# Altium schematic symbol library AutoBike.SCHLIB: 15 symbols
Pins are listed as number, name and electrical type; pins without a type are passive.

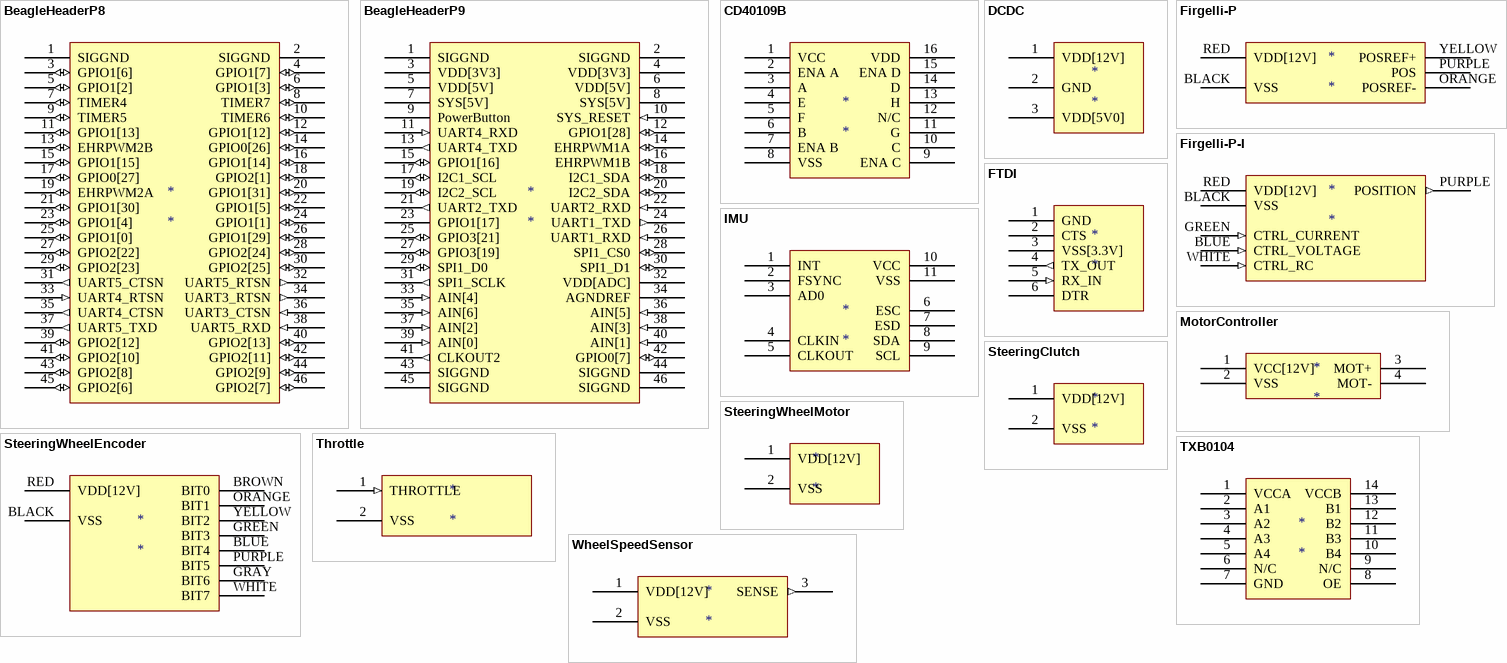
[diagram p0: symbols BeagleHeaderP8 to WheelSpeedSensor]

## BeagleHeaderP8
designator *
pins: 1 SIGGND (power), 2 SIGGND (power), 3 GPIO1[6] (io), 4 GPIO1[7] (io), 5 GPIO1[2] (io), 6 GPIO1[3] (io), 7 TIMER4 (io), 8 TIMER7 (io), 9 TIMER5 (io), 10 TIMER6 (io), 11 GPIO1[13] (io), 12 GPIO1[12] (io), 13 EHRPWM2B (io), 14 GPIO0[26] (io), 15 GPIO1[15] (io), 16 GPIO1[14] (io), 17 GPIO0[27] (io), 18 GPIO2[1] (io), 19 EHRPWM2A (io), 20 GPIO1[31] (io), 21 GPIO1[30] (io), 22 GPIO1[5] (io), 23 GPIO1[4] (io), 24 GPIO1[1] (io), 25 GPIO1[0] (io), 26 GPIO1[29] (io), 27 GPIO2[22] (io), 28 GPIO2[24] (io), 29 GPIO2[23] (io), 30 GPIO2[25] (io), 31 UART5_CTSN (out), 32 UART5_RTSN (out), 33 UART4_RTSN (in), 34 UART3_RTSN (out), 35 UART4_CTSN (out), 36 UART3_CTSN (in), 37 UART5_TXD (out), 38 UART5_RXD (in), 39 GPIO2[12] (io), 40 GPIO2[13] (io), 41 GPIO2[10] (io), 42 GPIO2[11] (io), 43 GPIO2[8] (io), 44 GPIO2[9] (io), 45 GPIO2[6] (io), 46 GPIO2[7] (io)

## BeagleHeaderP9
designator *
pins: 1 SIGGND (power), 2 SIGGND (power), 3 VDD[3V3] (power), 4 VDD[3V3] (power), 5 VDD[5V] (power), 6 VDD[5V] (power), 7 SYS[5V] (power), 8 SYS[5V], 9 PowerButton, 10 SYS_RESET (in), 11 UART4_RXD (in), 12 GPIO1[28] (io), 13 UART4_TXD (out), 14 EHRPWM1A (io), 15 GPIO1[16] (io), 16 EHRPWM1B (io), 17 I2C1_SCL (io), 18 I2C1_SDA (io), 19 I2C2_SCL (io), 20 I2C2_SDA (io), 21 UART2_TXD (out), 22 UART2_RXD (in), 23 GPIO1[17], 24 UART1_TXD (out), 25 GPIO3[21] (io), 26 UART1_RXD (in), 27 GPIO3[19] (io), 28 SPI1_CS0 (io), 29 SPI1_D0 (io), 30 SPI1_D1 (io), 31 SPI1_SCLK (out), 32 VDD[ADC] (power), 33 AIN[4] (in), 34 AGNDREF (power), 35 AIN[6] (in), 36 AIN[5] (in), 37 AIN[2] (in), 38 AIN[3] (in), 39 AIN[0] (in), 40 AIN[1] (in), 41 CLKOUT2 (out), 42 GPIO0[7] (io), 43 SIGGND (power), 44 SIGGND (power), 45 SIGGND (power), 46 SIGGND (power)

## CD40109B
designator *
pins: 1 VCC (power), 2 ENA A, 3 A, 4 E, 5 F, 6 B, 7 ENA B, 8 VSS, 9 ENA C, 10 C, 11 G, 12 N/C, 13 H, 14 D, 15 ENA D, 16 VDD (power)

## DCDC
designator *
pins: 1 VDD[12V], 2 GND, 3 VDD[5V0]

## Firgelli-P
designator *
pins: BLACK VSS (power), ORANGE POSREF-, PURPLE POS, RED VDD[12V], YELLOW POSREF+

## Firgelli-P-I
designator *
pins: BLACK VSS (power), BLUE CTRL_VOLTAGE (in), GREEN CTRL_CURRENT (in), PURPLE POSITION (out), RED VDD[12V], WHITE CTRL_RC (in)

## FTDI
designator *
pins: 1 GND (power), 2 CTS (power), 3 VSS[3.3V] (power), 4 TX_OUT (out), 5 RX_IN (in), 6 DTR

## IMU
designator *
pins: 1 INT, 2 FSYNC, 3 AD0, 4 CLKIN, 5 CLKOUT, 6 ESC, 7 ESD, 8 SDA, 9 SCL, 10 VCC, 11 VSS

## MotorController
designator *
pins: 1 VCC[12V] (power), 2 VSS (power), 3 MOT+, 4 MOT-

## SteeringClutch
designator *
pins: 1 VDD[12V] (power), 2 VSS (power)

## SteeringWheelEncoder
designator *
pins: BLACK VSS (power), BLUE BIT4 (oc), BROWN BIT0 (oc), GRAY BIT6 (oc), GREEN BIT3 (oc), ORANGE BIT1, PURPLE BIT5 (oc), RED VDD[12V] (power), WHITE BIT7 (oc), YELLOW BIT2 (oc)

## SteeringWheelMotor
designator *
pins: 1 VDD[12V] (power), 2 VSS (power)

## Throttle
designator *
pins: 1 THROTTLE (in), 2 VSS (power)

## TXB0104
designator *
pins: 1 VCCA (power), 2 A1, 3 A2, 4 A3, 5 A4, 6 N/C (hiz), 7 GND, 8 OE, 9 N/C, 10 B4, 11 B3, 12 B2, 13 B1, 14 VCCB

## WheelSpeedSensor
designator *
pins: 1 VDD[12V] (power), 2 VSS (power), 3 SENSE (out)